# EAGLE library part 68611214422 (library Eagle_FPC_CONNECTOR_AND_FFC_CAB (rev18c))
WR-FPC 1.00mm SMT ZIF Horizontal Bottom Contact, 12 Pins=>Code : Con_FPC_ZIF_1.00_68611214422 <http://katalog.we-online.de/media/images/eican/Con_FPC_ZIF_1.00_6861xx14422_pf2.jpg> Details see: http://katalog.we-online.de/en/em/686_1xx_144_22 Created 2014-07-09, Karrer Zheng 2014 (C) Würth Elektronik
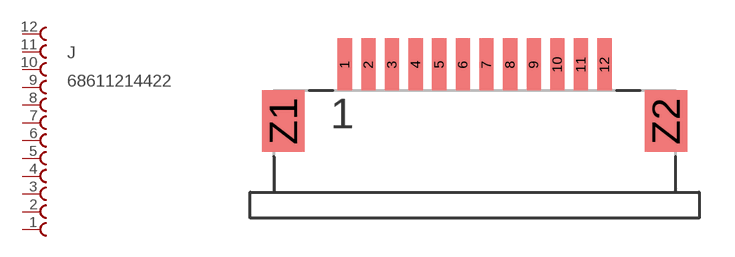
[diagram p6: symbol with the pads of 68611214422; footprint 68611214422]

Designator prefix J

## 68611214422  [68611214422]
1  12  pas
2  11  pas
3  10  pas
4  9  pas
5  8  pas
6  7  pas
7  6  pas
8  5  pas
9  4  pas
10  3  pas
11  2  pas
12  1  pas

## Footprint 68611214422 (pad centres in mm)
WR-FPC 1.00mm SMT ZIF Horizontal Bottom Contact, 12 Pins
smd 0.6 x 2.2: 1 -5.5,2.4; 2 -4.5,2.4; 3 -3.5,2.4; 4 -2.5,2.4; 5 -1.5,2.4; 6 -0.5,2.4; 7 0.5,2.4; 8 1.5,2.4; 9 2.5,2.4; 10 3.5,2.4; 11 4.5,2.4; 12 5.5,2.4
smd 1.8 x 2.6: Z1 -8.1,0; Z2 8.1,0